# Altium schematic symbol library 691 241 510 0xx.SchLib: 7 symbols
Pins are listed as number, name and electrical type; pins without a type are passive.

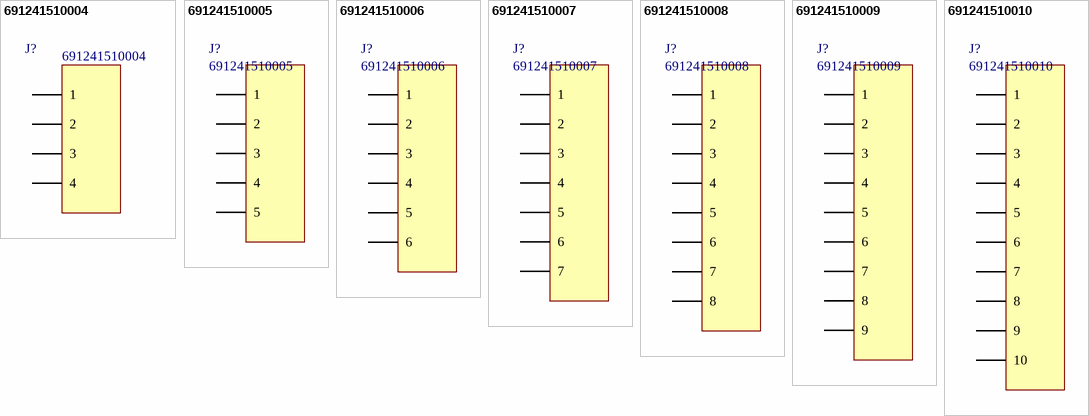
[diagram p0: symbols 691241510004 to 691241510010]

## 691241510004
designator J?
Horizontal Cable Entry with Rising Cage Clamp, Serie 2415 - 5.08 mm; Manufacturer: Wurth Elektronik; ComponentLink1 Description: Manufacturer; ComponentLink2 Description: Datasheet; NoPins: 4; ComponentLink1 URL: http://www.we-online.com; ComponentLink2 URL: http://katalog.we-online.de/em/datasheet/6912415100xx.pdf; Created By: Baojun Chen; Created Date: 6-Aug-15; PartNo: 691241510004; Value: 691241510004
footprint 691241510004 (Serie 2415 - 5.08 mm _ 4 pins)
pins: 1, 2, 3, 4

## 691241510005
designator J?
Horizontal Cable Entry with Rising Cage Clamp, Serie 2415 - 5.08 mm; Manufacturer: Wurth Elektronik; ComponentLink1 Description: Manufacturer; ComponentLink2 Description: Datasheet; NoPins: 5; ComponentLink1 URL: http://www.we-online.com; ComponentLink2 URL: http://katalog.we-online.de/em/datasheet/6912415100xx.pdf; Created By: Baojun Chen; Created Date: 6-Aug-15; PartNo: 691241510005; Value: 691241510005
footprint 691241510005 (Serie 2415 - 5.08 mm _ 5 pins)
pins: 1, 2, 3, 4, 5

## 691241510006
designator J?
Horizontal Cable Entry with Rising Cage Clamp, Serie 2415 - 5.08 mm; Manufacturer: Wurth Elektronik; ComponentLink1 Description: Manufacturer; ComponentLink2 Description: Datasheet; NoPins: 6; ComponentLink1 URL: http://www.we-online.com; ComponentLink2 URL: http://katalog.we-online.de/em/datasheet/6912415100xx.pdf; Created By: Baojun Chen; Created Date: 6-Aug-15; PartNo: 691241510006; Value: 691241510006
footprint 691241510006 (Serie 2415 - 5.08 mm _ 6 pins)
pins: 1, 2, 3, 4, 5, 6

## 691241510007
designator J?
Horizontal Cable Entry with Rising Cage Clamp, Serie 2415 - 5.08 mm; Manufacturer: Wurth Elektronik; ComponentLink1 Description: Manufacturer; ComponentLink2 Description: Datasheet; NoPins: 7; ComponentLink1 URL: http://www.we-online.com; ComponentLink2 URL: http://katalog.we-online.de/em/datasheet/6912415100xx.pdf; Created By: Baojun Chen; Created Date: 6-Aug-15; PartNo: 691241510007; Value: 691241510007
footprint 691241510007 (Serie 2415 - 5.08 mm _ 7 pins)
pins: 1, 2, 3, 4, 5, 6, 7

## 691241510008
designator J?
Horizontal Cable Entry with Rising Cage Clamp, Serie 2415 - 5.08 mm; Manufacturer: Wurth Elektronik; ComponentLink1 Description: Manufacturer; ComponentLink2 Description: Datasheet; NoPins: 8; ComponentLink1 URL: http://www.we-online.com; ComponentLink2 URL: http://katalog.we-online.de/em/datasheet/6912415100xx.pdf; Created By: Baojun Chen; Created Date: 6-Aug-15; PartNo: 691241510008; Value: 691241510008
footprint 691241510008 (Serie 2415 - 5.08 mm _ 8 pins)
pins: 1, 2, 3, 4, 5, 6, 7, 8

## 691241510009
designator J?
Horizontal Cable Entry with Rising Cage Clamp, Serie 2415 - 5.08 mm; Manufacturer: Wurth Elektronik; ComponentLink1 Description: Manufacturer; ComponentLink2 Description: Datasheet; NoPins: 9; ComponentLink1 URL: http://www.we-online.com; ComponentLink2 URL: http://katalog.we-online.de/em/datasheet/6912415100xx.pdf; Created By: Baojun Chen; Created Date: 6-Aug-15; PartNo: 691241510009; Value: 691241510009
footprint 691241510009 (Serie 2415 - 5.08 mm _ 9 pins)
pins: 1, 2, 3, 4, 5, 6, 7, 8, 9

## 691241510010
designator J?
Horizontal Cable Entry with Rising Cage Clamp, Serie 2415 - 5.08 mm; Manufacturer: Wurth Elektronik; ComponentLink1 Description: Manufacturer; ComponentLink2 Description: Datasheet; NoPins: 10; ComponentLink1 URL: http://www.we-online.com; ComponentLink2 URL: http://katalog.we-online.de/em/datasheet/6912415100xx.pdf; Created By: Baojun Chen; Created Date: 6-Aug-15; PartNo: 691241510010; Value: 691241510010
footprint 691241510010 (Serie 2415 - 5.08 mm _ 10 pins)
pins: 1, 2, 3, 4, 5, 6, 7, 8, 9, 10